# EAGLE library part 74AHCT125 (library lichtenstein_onion)
UADRUPLE BUS BUFFER GATES WITH 3-STATE OUTPUTS Datasheet <http://www.ti.com/lit/ds/symlink/sn74ahct125.pdf>
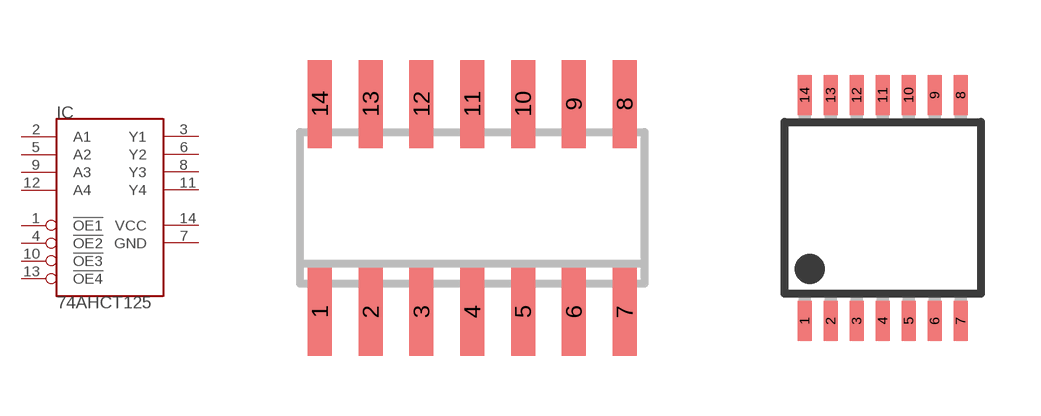
[diagram p11: symbol with the pads of SO14; footprints SO14, TSSOP14]

Designator prefix IC

## 74AHCT125SOIC14 (MOUSER: 595-SN74AHCT125D)  [SO14]
1  !OE1  in
2  A1  in
3  Y1  out
4  !OE2  in
5  A2  in
6  Y2  out
7  GND  pwr
8  Y3  out
9  A3  in
10  !OE3  in
11  Y4  out
12  A4  in
13  !OE4  in
14  VCC  pwr

## 74AHCT125TSSOP14 (MOUSER: 595-SN74AHCT125PW)  [TSSOP14]
Pads as for SO14

## Footprint SO14 (pad centres in mm)
SMALL OUTLINE INTEGRATED CIRCUIT body 3.9 mm/JEDEC MS-012AC
smd 0.6 x 2.2: 1 -3.81,-2.6; 2 -2.54,-2.6; 3 -1.27,-2.6; 4 0,-2.6; 5 1.27,-2.6; 6 2.54,-2.6; 7 3.81,-2.6; 8 3.81,2.6; 9 2.54,2.6; 10 1.27,2.6; 11 0,2.6; 12 -1.27,2.6; 13 -2.54,2.6; 14 -3.81,2.6

## Footprint TSSOP14 (pad centres in mm)
14-Lead Plastic Thin Shrink Small Outline (ST) - 4.4 mm Body TSSOP Source: http://ww1.microchip.com/downloads/en/DeviceDoc/40039E.pdf
smd 0.35 x 1: 1 -1.95,-2.825; 2 -1.3,-2.825; 3 -0.65,-2.825; 4 0,-2.825; 5 0.65,-2.825; 6 1.3,-2.825; 7 1.95,-2.825; 8 1.95,2.825; 9 1.3,2.825; 10 0.65,2.825; 11 0,2.825; 12 -0.65,2.825; 13 -1.3,2.825; 14 -1.95,2.825